# Altium integrated library MSP430G2553IN20.IntLib: 1 symbol
Pins are listed as number, name and electrical type; pins without a type are passive.

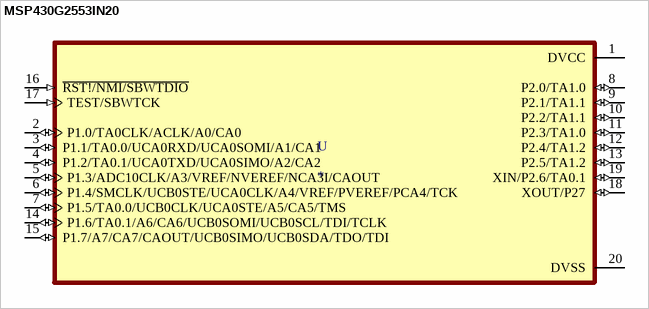
[diagram p0: symbol MSP430G2553IN20]

## MSP430G2553IN20
designator U
MSP430 MSP430G2xx Microcontroller IC 16-Bit 16MHz 16KB _16K x 8_ FLASH 20-PDIP; MF: Texas Instruments; MP: MSP430G2553IN20; Package: PDIP-20 Texas Instruments; Availability: Unavailable; Value: *; SnapEDA_Link: https://www.snapeda.com/parts/MSP430G2553IN20/Texas%20Instruments/view-part/46372/?ref=snap; Price: None
footprint DIP794W45P254L2692H508Q20
pins: 1 DVCC (power), 2 P1.0/TA0CLK/ACLK/A0/CA0 (io), 3 P1.1/TA0.0/UCA0RXD/UCA0SOMI/A1/CA1 (io), 4 P1.2/TA0.1/UCA0TXD/UCA0SIMO/A2/CA2 (io), 5 P1.3/ADC10CLK/A3/VREF/NVEREF/NCA3I/CAOUT (io), 6 P1.4/SMCLK/UCB0STE/UCA0CLK/A4/VREF/PVEREF/PCA4/TCK (io), 7 P1.5/TA0.0/UCB0CLK/UCA0STE/A5/CA5/TMS (io), 8 P2.0/TA1.0 (io), 9 P2.1/TA1.1 (io), 10 P2.2/TA1.1 (io), 11 P2.3/TA1.0 (io), 12 P2.4/TA1.2 (io), 13 P2.5/TA1.2 (io), 14 P1.6/TA0.1/A6/CA6/UCB0SOMI/UCB0SCL/TDI/TCLK (io), 15 P1.7/A7/CA7/CAOUT/UCB0SIMO/UCB0SDA/TDO/TDI (io), 16 ~{RST!/NMI/SBWTDIO} (in), 17 TEST/SBWTCK (in), 18 XOUT/P27 (io), 19 XIN/P2.6/TA0.1 (io), 20 DVSS (power)